# Altium footprint library EKMC1603112.PcbLib: 1 footprints
Each footprint in its own frame and in the unit in brackets; x right, y up, seen from the top. Pads: shape width x height; smd on the part's side, far side on the other; paste and mask are expansions set on the pad; w line width, h text height; cw(c..) or ccw(c..) is an arc to the next point about the centre after c.
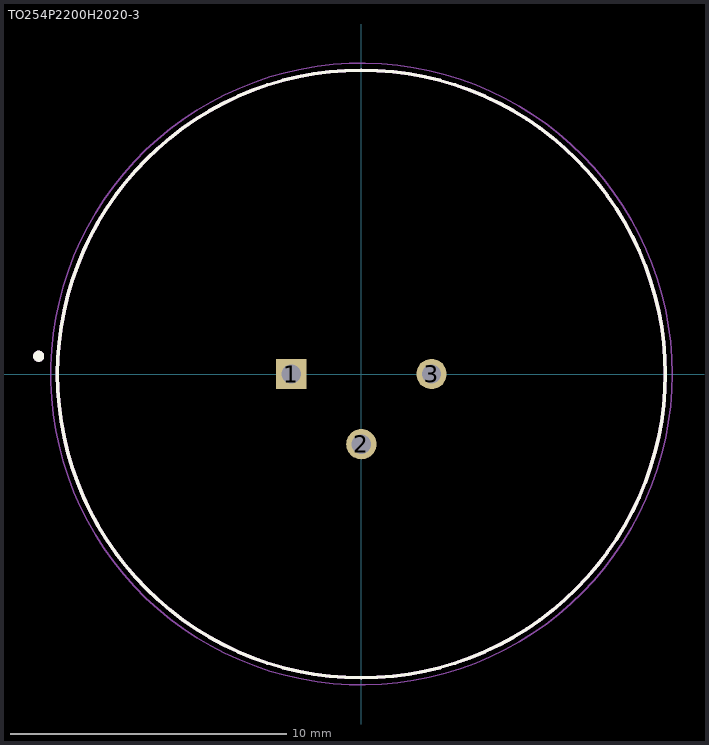
[diagram p0: the footprint, top view; thin cyan lines are the x and y axes]

## TO254P2200H2020-3 [mm]
pads (3):
  rect 1.1x1.1 hole 0.7: 1(-2.54,0)
  round 1.1 hole 0.7: 2(0,-2.54) 3(2.54,0)
Top Overlay:
  circle w0.127: c0,0 r11
  circle w0.2: c-11.684,0.643 r0.1
Mechanical 13:
  circle w0.127: c0,0 r11
  circle w0.2: c-11.684,0.643 r0.1
Mechanical 15:
  circle w0.05: c0,0 r11.25